# Altium schematic symbol library 8A34001E-000AJG8.SchLib: 2 symbols
Pins are listed as number, name and electrical type; pins without a type are passive.

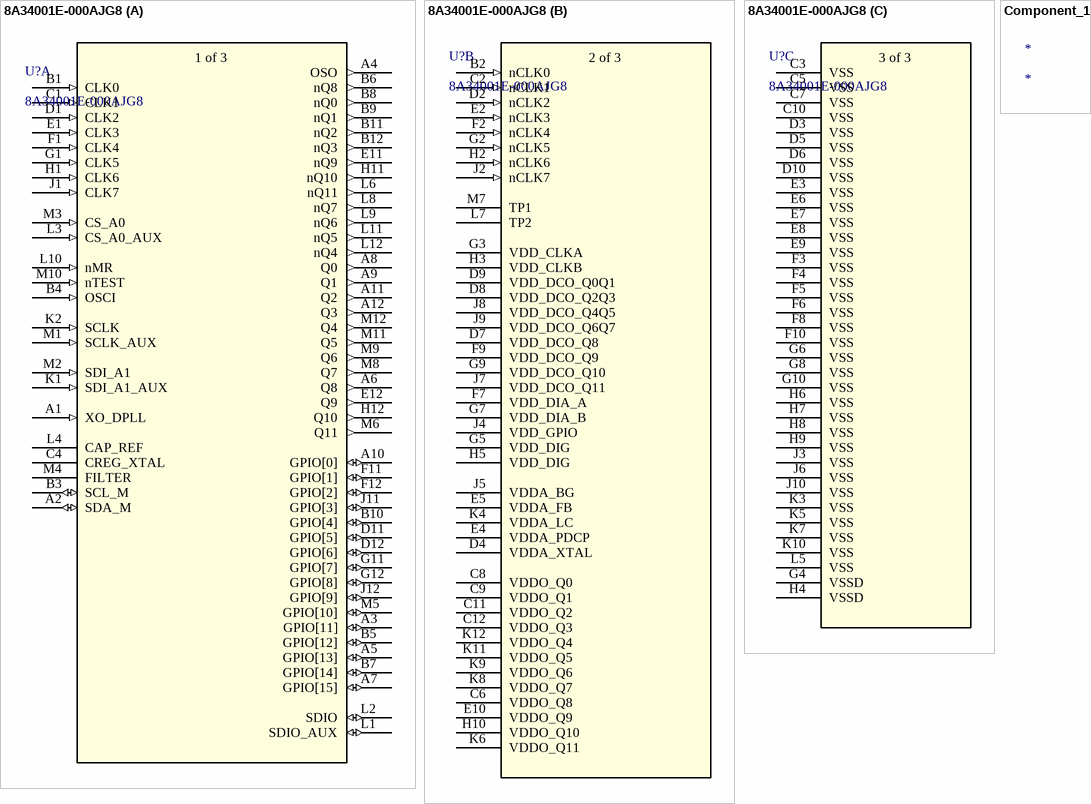
[diagram p0: symbols 8A34001E-000AJG8 to Component_1]

## 8A34001E-000AJG8
designator U?
No Description Available; Mfr_Name: Renesas Electronics; Copyright: Copyright (C) 2024 Ultra Librarian. All rights reserved.; Manufacturer_Part_Number: 8A34001E-000AJG8; RefDes: RefDes; Type: DEV
footprint 144-CABGA_REN
part A pins: A1 XO_DPLL (in), A2 SDA_M (io), A3 GPIO[11] (io), A4 OSO (out), A5 GPIO[13] (io), A6 Q8 (out), A7 GPIO[15] (io), A8 Q0 (out), A9 Q1 (out), A10 GPIO[0] (io), A11 Q2 (out), A12 Q3 (out), B1 CLK0 (in), B3 SCL_M (io), B4 OSCI (in), B5 GPIO[12] (io), B6 nQ8 (out), B7 GPIO[14] (io), B8 nQ0 (out), B9 nQ1 (out), B10 GPIO[4] (io), B11 nQ2 (out), B12 nQ3 (out), C1 CLK1 (in), C4 CREG_XTAL, D1 CLK2 (in), D11 GPIO[5] (io), D12 GPIO[6] (io), E1 CLK3 (in), E11 nQ9 (out), E12 Q9 (out), F1 CLK4 (in), F11 GPIO[1] (io), F12 GPIO[2] (io), G1 CLK5 (in), G11 GPIO[7] (io), G12 GPIO[8] (io), H1 CLK6 (in), H11 nQ10 (out), H12 Q10 (out), J1 CLK7 (in), J11 GPIO[3] (io), J12 GPIO[9] (io), K1 SDI_A1_AUX (in), K2 SCLK (in), L1 SDIO_AUX (io), L2 SDIO (io), L3 CS_A0_AUX (in), L4 CAP_REF, L6 nQ11 (out), L8 nQ7 (out), L9 nQ6 (out), L10 nMR (in), L11 nQ5 (out), L12 nQ4 (out), M1 SCLK_AUX (in), M2 SDI_A1 (in), M3 CS_A0 (in), M4 FILTER, M5 GPIO[10] (io), M6 Q11 (out), M8 Q7 (out), M9 Q6 (out), M10 nTEST (in), M11 Q5 (out), M12 Q4 (out)
part B pins: B2 nCLK0 (in), C2 nCLK1 (in), C6 VDDO_Q8 (power), C8 VDDO_Q0 (power), C9 VDDO_Q1 (power), C11 VDDO_Q2 (power), C12 VDDO_Q3 (power), D2 nCLK2 (in), D4 VDDA_XTAL (power), D7 VDD_DCO_Q8 (power), D8 VDD_DCO_Q2Q3 (power), D9 VDD_DCO_Q0Q1 (power), E2 nCLK3 (in), E4 VDDA_PDCP (power), E5 VDDA_FB (power), E10 VDDO_Q9 (power), F2 nCLK4 (in), F7 VDD_DIA_A (power), F9 VDD_DCO_Q9 (power), G2 nCLK5 (in), G3 VDD_CLKA (power), G5 VDD_DIG (power), G7 VDD_DIA_B (power), G9 VDD_DCO_Q10 (power), H2 nCLK6 (in), H3 VDD_CLKB (power), H5 VDD_DIG (power), H10 VDDO_Q10 (power), J2 nCLK7 (in), J4 VDD_GPIO (power), J5 VDDA_BG (power), J7 VDD_DCO_Q11 (power), J8 VDD_DCO_Q4Q5 (power), J9 VDD_DCO_Q6Q7 (power), K4 VDDA_LC (power), K6 VDDO_Q11 (power), K8 VDDO_Q7 (power), K9 VDDO_Q6 (power), K11 VDDO_Q5 (power), K12 VDDO_Q4 (power), L7 TP2, M7 TP1
part C pins: C3 VSS (power), C5 VSS (power), C7 VSS (power), C10 VSS (power), D3 VSS (power), D5 VSS (power), D6 VSS (power), D10 VSS (power), E3 VSS (power), E6 VSS (power), E7 VSS (power), E8 VSS (power), E9 VSS (power), F3 VSS (power), F4 VSS (power), F5 VSS (power), F6 VSS (power), F8 VSS (power), F10 VSS (power), G4 VSSD (power), G6 VSS (power), G8 VSS (power), G10 VSS (power), H4 VSSD (power), H6 VSS (power), H7 VSS (power), H8 VSS (power), H9 VSS (power), J3 VSS (power), J6 VSS (power), J10 VSS (power), K3 VSS (power), K5 VSS (power), K7 VSS (power), K10 VSS (power), L5 VSS (power)
part A text: 1 of 3
part B text: 2 of 3
part C text: 3 of 3

## Component_1
designator *